# Altium footprint library логика.PcbLib: 18 footprints (part 1 of 2)
Each footprint in its own frame and in the unit in brackets; x right, y up, seen from the top. Pads: shape width x height; smd on the part's side, far side on the other; paste and mask are expansions set on the pad; w line width, h text height; cw(c..) or ccw(c..) is an arc to the next point about the centre after c.
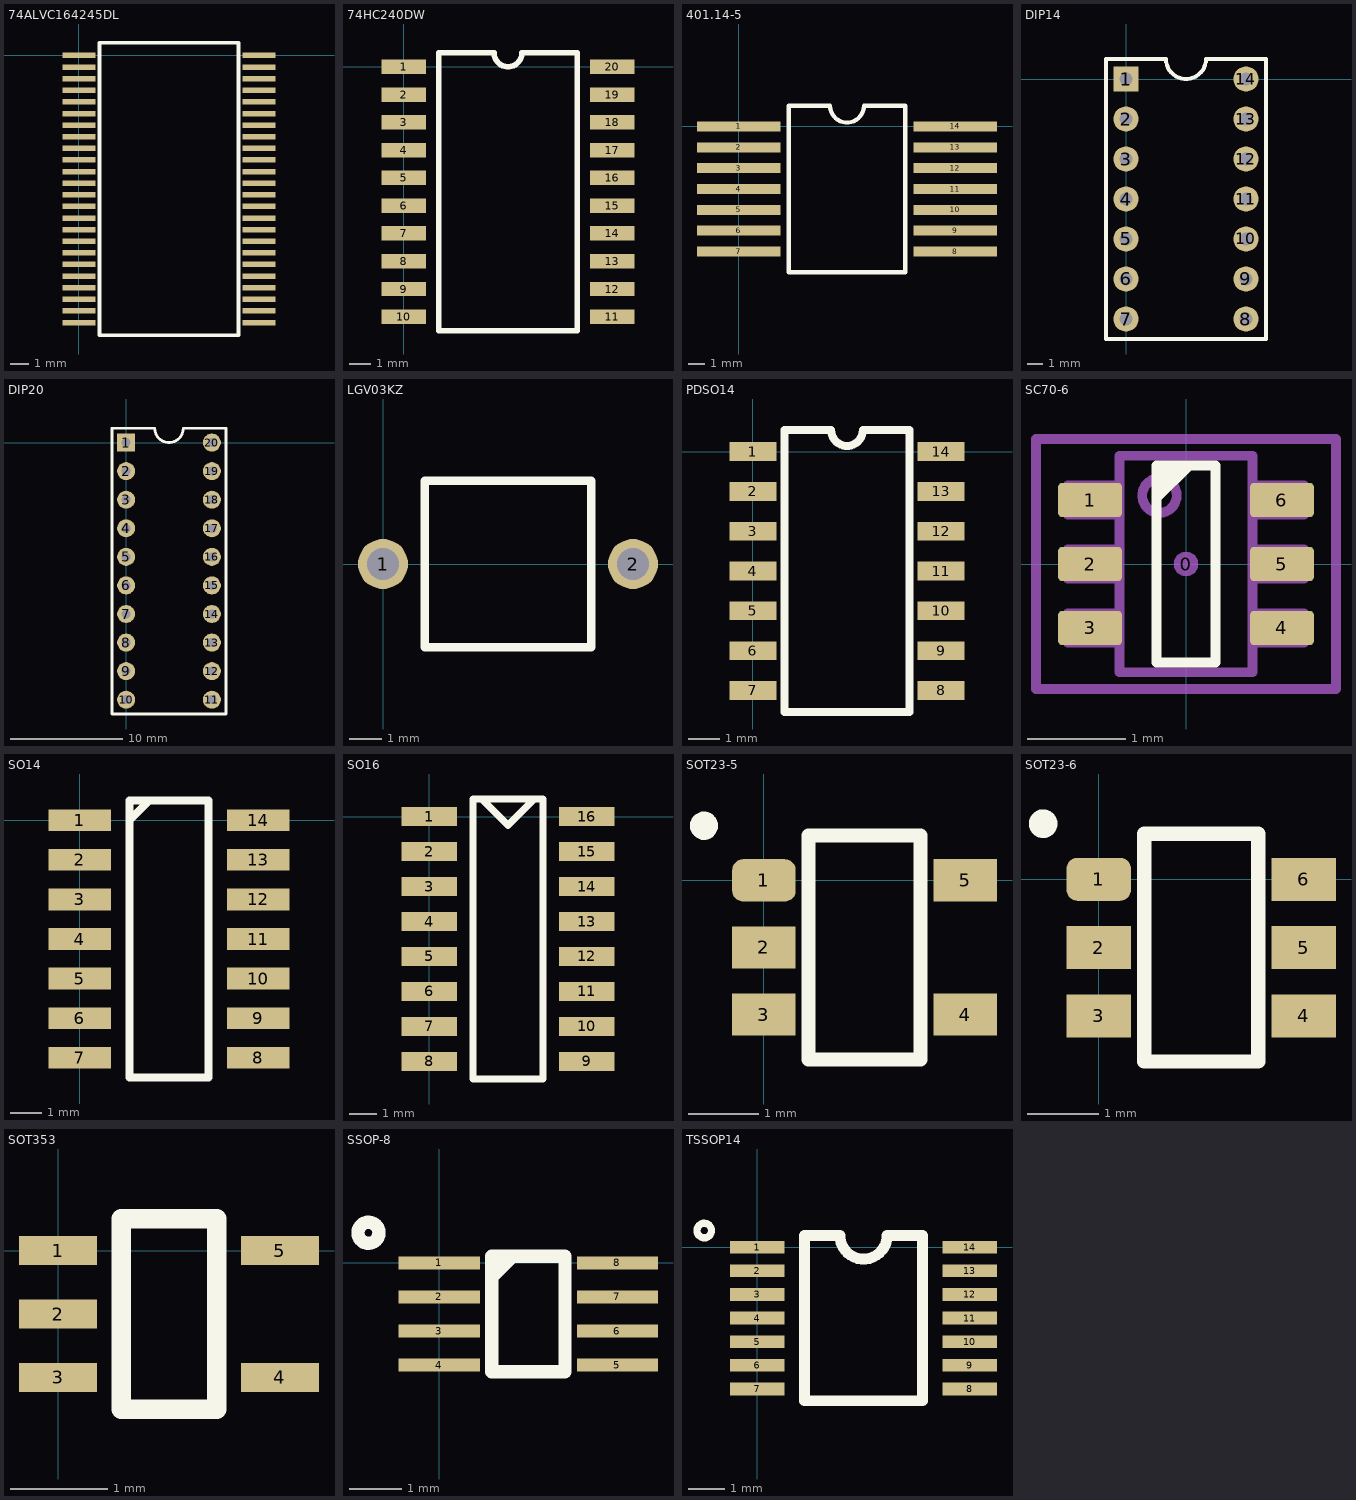
[diagram p0: the footprints below, top view; thin cyan lines are the x and y axes]

## 74ALVC164245DL [mm]
pads (48):
  rect 1.8x0.3 smd: 1(0,0) 2(0,-0.635) 3(0,-1.27) 4(0,-1.905) 5(0,-2.54) 6(0,-3.175) 7(0,-3.81) 8(0,-4.445) 9(0,-5.08) 10(0,-5.715) 11(0,-6.35) 12(0,-6.985) 13(0,-7.62) 14(0,-8.255) 15(0,-8.89) 16(0,-9.525) 17(0,-10.16) 18(0,-10.795) 19(0,-11.43) 20(0,-12.065) 21(0,-12.7) 22(0,-13.335) 23(0,-13.97) 24(0,-14.605) 25(9.85,-14.605) 26(9.85,-13.97) 27(9.85,-13.335) 28(9.85,-12.7) 29(9.85,-12.065) 30(9.85,-11.43) 31(9.85,-10.795) 32(9.85,-10.16) 33(9.85,-9.525) 34(9.85,-8.89) 35(9.85,-8.255) 36(9.85,-7.62) 37(9.85,-6.985) 38(9.85,-6.35) 39(9.85,-5.715) 40(9.85,-5.08) 41(9.85,-4.445) 42(9.85,-3.81) 43(9.85,-3.175) 44(9.85,-2.54) 45(9.85,-1.905) 46(9.85,-1.27) 47(9.85,-0.635) 48(9.85,0)
Top Overlay:
  lines w0.2: 1.125,-15.302 1.125,0.697 8.725,0.697 8.725,-15.302 1.125,-15.302

## 74HC240DW [mil]
pads (20):
  rect 80x26 smd: 1(0,0) 2(0,-50) 3(0,-100) 4(0,-150) 5(0,-200) 6(0,-250) 7(0,-300) 8(0,-350) 9(0,-400) 10(0,-450) 11(375,-450) 12(375,-400) 13(375,-350) 14(375,-300) 15(375,-250) 16(375,-200) 17(375,-150) 18(375,-100) 19(375,-50) 20(375,0)
Top Overlay:
  lines w10: 62.5,-475 312.5,-475 312.5,25 212.5,25 cw(c187.5,25) 162.5,25 62.5,25 62.5,-475

## 401.14-5 [mm]
pads (14):
  rect 5x0.6 smd: 1(0,0) 2(0,-1.25) 3(0,-2.5) 4(0,-3.75) 5(0,-5) 6(0,-6.25) 7(0,-7.5) 8(13,-7.5) 9(13,-6.25) 10(13,-5) 11(13,-3.75) 12(13,-2.5) 13(13,-1.25) 14(13,0)
Top Overlay:
  lines w0.254: 3,-8.75 3,1.25 5.484,1.25 ccw(c6.5,1.25) 7.516,1.25 10,1.25 10,-8.75 3,-8.75

## DIP14 [mm]
pads (14):
  rect 1.6x1.6 hole 0.8: 1(0,0)
  round 1.6 hole 0.8: 2(0,-2.54) 3(0,-5.08) 4(0,-7.62) 5(0,-10.16) 6(0,-12.7) 7(0,-15.24) 8(7.62,-15.24) 9(7.62,-12.7) 10(7.62,-10.16) 11(7.62,-7.62) 12(7.62,-5.08) 13(7.62,-2.54) 14(7.62,0)
Top Overlay:
  lines w0.254: -1.27,-16.51 8.89,-16.51 8.89,1.27 5.08,1.27 cw(c3.81,1.27) 2.54,1.27 -1.27,1.27 -1.27,-16.51

## DIP20 [mm]
pads (20):
  rect 1.6x1.6 hole 0.8: 1(0,0)
  round 1.6 hole 0.8: 2(0,-2.54) 3(0,-5.08) 4(0,-7.62) 5(0,-10.16) 6(0,-12.7) 7(0,-15.24) 8(0,-17.78) 9(0,-20.32) 10(0,-22.86) 11(7.62,-22.86) 12(7.62,-20.32) 13(7.62,-17.78) 14(7.62,-15.24) 15(7.62,-12.7) 16(7.62,-10.16) 17(7.62,-7.62) 18(7.62,-5.08) 19(7.62,-2.54) 20(7.62,0)
Top Overlay:
  lines w0.254: -1.27,-24.13 8.89,-24.13 8.89,1.27 5.08,1.27 cw(c3.81,1.27) 2.54,1.27 -1.27,1.27 -1.27,-24.13

## LGV03KZ [mil]
pads (2):
  round 60 hole 38: 1(0,0) 2(300,0)
Top Overlay:
  lines w10: 50,-100 250,-100 250,100 50,100 50,-100

## PCBComponent_1 [mm]

## PDSO14 [mm]
pads (14):
  rect 1.5x0.6 smd: 1(0,0) 2(0,-1.27) 3(0,-2.54) 4(0,-3.81) 5(0,-5.08) 6(0,-6.35) 7(0,-7.62) 8(6,-7.62) 9(6,-6.35) 10(6,-5.08) 11(6,-3.81) 12(6,-2.54) 13(6,-1.27) 14(6,0)
Top Overlay:
  lines w0.254: 1,-8.31 5,-8.31 5,0.69 3.508,0.69 cw(c3,0.69) 2.492,0.69 1,0.69 1,-8.31

## SC70-6 [mm] "SC70-6; SOT-363"
height 1.6
pads (7):
  round 0.25 on Mech15: 0(0,0)
  rrect25% 0.65x0.35 smd: 1(-0.975,0.65) 2(-0.975,0) 3(-0.975,-0.65) 4(0.975,-0.65) 5(0.975,0) 6(0.975,0.65)
Top Overlay:
  region: -0.3,1 0.1,1 -0.3,0.6
  lines w0.1: -0.3,-1 0.3,-1 0.3,1 -0.3,1 -0.3,-1
  text "." at -1.5,0.85 h0.1
Mechanical 13:
  circle w0.1: c-0.27,0.695 r0.175
  lines w0.1: -1.028,-0.8 -1.028,-0.5 ; -1.028,-0.15 -1.028,0.15 ; -1.028,0.5 -1.028,0.8 ; -0.675,-0.8 -1.2,-0.8 -1.2,-0.5 -0.675,-0.5 ; -0.675,-0.15 -1.2,-0.15 -1.2,0.15 -0.675,0.15 ; -0.675,0.5 -1.2,0.5 -1.2,0.8 -0.675,0.8 ; 0.675,-0.8 1.2,-0.8 1.2,-0.5 0.675,-0.5 ; 0.675,-0.15 1.2,-0.15 1.2,0.15 0.675,0.15 ; 0.675,0.5 1.2,0.5 1.2,0.8 0.675,0.8 ; 1.028,-0.8 1.028,-0.5 ; 1.028,-0.15 1.028,0.15 ; 1.028,0.5 1.028,0.8 ; -0.675,-1.1 -0.675,1.1 0.675,1.1 0.675,-1.1 -0.675,-1.1
  text ".Designator" at -2.159,1.651 h1
  text ".Comment" at -1.778,-2.032 h1
Mechanical 15:
  lines w0.1: -1.524,-1.27 1.524,-1.27 1.524,1.27 -1.524,1.27 -1.524,-1.27
3D body "SOT363.STEP": height 1.1, standoff 0, extent -1.2,-1.1 1.2,1.1

## SO14 [mm]
pads (14):
  rect 2x0.7 smd: 1(0,0) 2(0,-1.27) 3(0,-2.54) 4(0,-3.81) 5(0,-5.08) 6(0,-6.35) 7(0,-7.62) 8(5.715,-7.62) 9(5.715,-6.35) 10(5.715,-5.08) 11(5.715,-3.81) 12(5.715,-2.54) 13(5.715,-1.27) 14(5.715,0)
Top Overlay:
  lines w0.254: 1.587,0 2.222,0.635 ; 1.587,-8.255 4.127,-8.255 4.127,0.635 1.587,0.635 1.587,-8.255

## SO16 [mm]
pads (16):
  rect 2x0.7 smd: 1(0,0) 2(0,-1.27) 3(0,-2.54) 4(0,-3.81) 5(0,-5.08) 6(0,-6.35) 7(0,-7.62) 8(0,-8.89) 9(5.715,-8.89) 10(5.715,-7.62) 11(5.715,-6.35) 12(5.715,-5.08) 13(5.715,-3.81) 14(5.715,-2.54) 15(5.715,-1.27) 16(5.715,0)
Top Overlay:
  lines w0.254: 1.905,0.635 2.857,-0.318 3.81,0.635 ; 1.587,-9.525 1.587,0.635 4.127,0.635 4.127,-9.525 1.587,-9.525

## SOT23-5 [mm]
pads (5):
  rrect50% 0.9x0.6 smd mask+0.025: 1(0,0)
  rect 0.9x0.6 smd mask+0.025: 2(0,-0.953) 3(0,-1.905) 4(2.857,-1.905) 5(2.857,0)
Top Overlay:
  circle w0.2: c-0.85,0.775 r0.1
  lines w0.2: 0.635,-2.54 2.222,-2.54 2.222,0.635 0.635,0.635 0.635,-2.54
3D body "User Library-SOT23-5.STEP": height 1.09, standoff -0.01, extent 0,-2.399 2.8,0.5

## SOT23-6 [mm]
pads (6):
  rrect50% 0.9x0.6 smd mask+0.025: 1(0,0)
  rect 0.9x0.6 smd mask+0.025: 2(0,-0.953) 3(0,-1.905) 4(2.857,-1.905) 5(2.857,-0.953) 6(2.857,0)
Top Overlay:
  circle w0.2: c-0.775,0.775 r0.1
  lines w0.2: 0.635,-2.54 0.635,0.635 2.222,0.635 2.222,-2.54 0.635,-2.54
3D body "User Library-SOT-23-6-3.SLDPRT": height 0.86, standoff 0, extent 0.02,-2.45 2.83,0.55

## SOT353 [mm]
pads (5):
  rect 0.8x0.3 smd: 1(0,0) 2(0,-0.65) 3(0,-1.3) 4(2.275,-1.3) 5(2.275,0)
Top Overlay:
  lines w0.2: 0.65,-1.625 0.65,0.325 1.625,0.325 1.625,-1.625 0.65,-1.625

## SSOP-8 [mm]
pads (8):
  rect 1.55x0.25 smd: 1(0,0) 2(0,-0.65) 3(0,-1.3) 4(0,-1.95) 5(3.4,-1.95) 6(3.4,-1.3) 7(3.4,-0.65) 8(3.4,0)
Top Overlay:
  circle w0.254: c-1.35,0.575 r0.2
  lines w0.254: 1,-0.275 1.4,0.125 ; 1,-2.075 2.4,-2.075 2.4,0.125 1.7,0.125 1,0.125 1,-2.075

## TSSOP14 [mm]
pads (14):
  rect 1.5x0.35 smd: 1(0,0) 2(0,-0.65) 3(0,-1.3) 4(0,-1.95) 5(0,-2.6) 6(0,-3.25) 7(0,-3.9) 8(5.85,-3.9) 9(5.85,-3.25) 10(5.85,-2.6) 11(5.85,-1.95) 12(5.85,-1.3) 13(5.85,-0.65) 14(5.85,0)
Top Overlay:
  circle w0.2: c-1.46,0.46 r0.2
  lines w0.3: 1.3,-4.225 4.55,-4.225 4.55,0.325 3.575,0.325 cw(c2.925,0.325) 2.275,0.325 1.3,0.325 1.3,-4.225